# Altium schematic symbol library SCH - AMP AUDIO - ANALOG SSM2804CBZ-RL.SchLib: 1 symbol
Pins are listed as number, name and electrical type; pins without a type are passive.

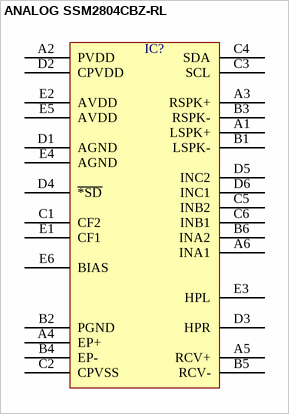
[diagram p0: symbol ANALOG SSM2804CBZ-RL]

## ANALOG SSM2804CBZ-RL
designator IC?  (value not drawn)
pins: A1 LSPK+, A2 PVDD, A3 RSPK+, A4 EP+, A5 RCV+, A6 INA1, B1 LSPK-, B2 PGND, B3 RSPK-, B4 EP-, B5 RCV-, B6 INA2, C1 CF2, C2 CPVSS, C3 SCL, C4 SDA, C5 INB2, C6 INB1, D1 AGND, D2 CPVDD, D3 HPR, D4 ~{*SD}, D5 INC2, D6 INC1, E1 CF1, E2 AVDD, E3 HPL, E4 AGND, E5 AVDD, E6 BIAS